# EAGLE library part IM_RELAY (library Victor)
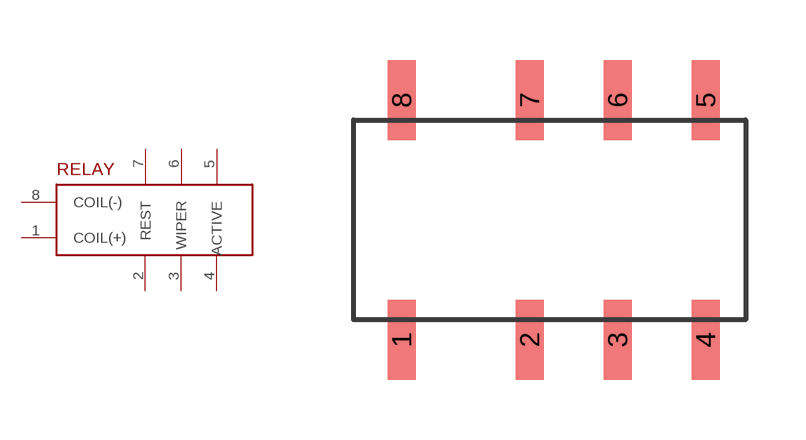
[diagram p0: symbol with the pads of IM_RELAY; footprint IM_RELAY]

Designator prefix -

## IM_RELAY  [IM_RELAY]
1  COIL(+)
2  2
3  3
4  4
5  ACTIVE
6  WIPER
7  REST
8  COIL(-)

## Footprint IM_RELAY (pad centres in mm)
smd 0.7 x 2: 1 -3.2,-3; 2 0,-3; 3 2.2,-3; 4 4.4,-3; 5 4.4,3; 6 2.2,3; 7 0,3; 8 -3.2,3